# EAGLE library part 23K256 (library candrian)
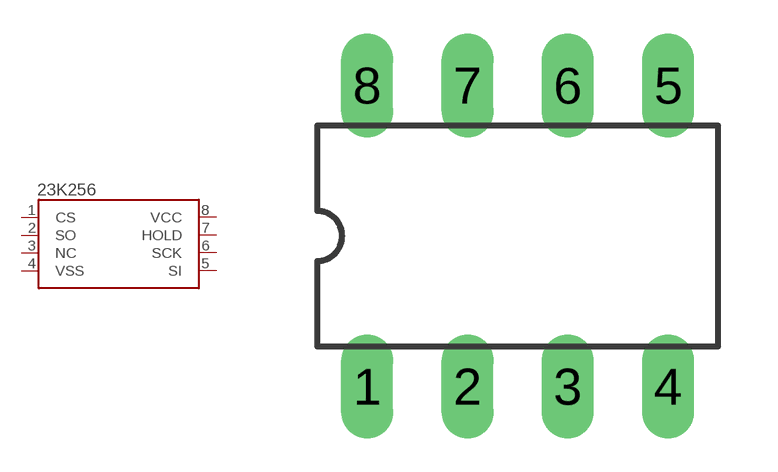
[diagram p11: symbol with the pads of DIL08; footprint DIL08]

Designator prefix IC

## 23K256  [DIL08]
1  CS
2  SO
3  NC
4  VSS
5  SI
6  SCK
7  HOLD
8  VCC

## Footprint DIL08 (pad centres in mm)
drill 0.813 long: 1 -3.81,-3.81; 2 -1.27,-3.81; 3 1.27,-3.81; 4 3.81,-3.81; 5 3.81,3.81; 6 1.27,3.81; 7 -1.27,3.81; 8 -3.81,3.81